# Altium schematic symbol library LM.SchLib: 1 symbol
Pins are listed as number, name and electrical type; pins without a type are passive.

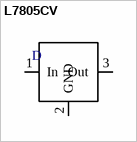
[diagram p0: symbol L7805CV]

## L7805CV
designator D  (value not drawn)
L7805CV  Three-terminal Voltage Regulator, Output voltage VO: 5V, Input Voltage 35V
pins: 1 In, 2 GND, 3 Out